# Altium footprint library TSW-102-05-T-S.PcbLib: 1 footprints
Each footprint in its own frame and in the unit in brackets; x right, y up, seen from the top. Pads: shape width x height; smd on the part's side, far side on the other; paste and mask are expansions set on the pad; w line width, h text height; cw(c..) or ccw(c..) is an arc to the next point about the centre after c.
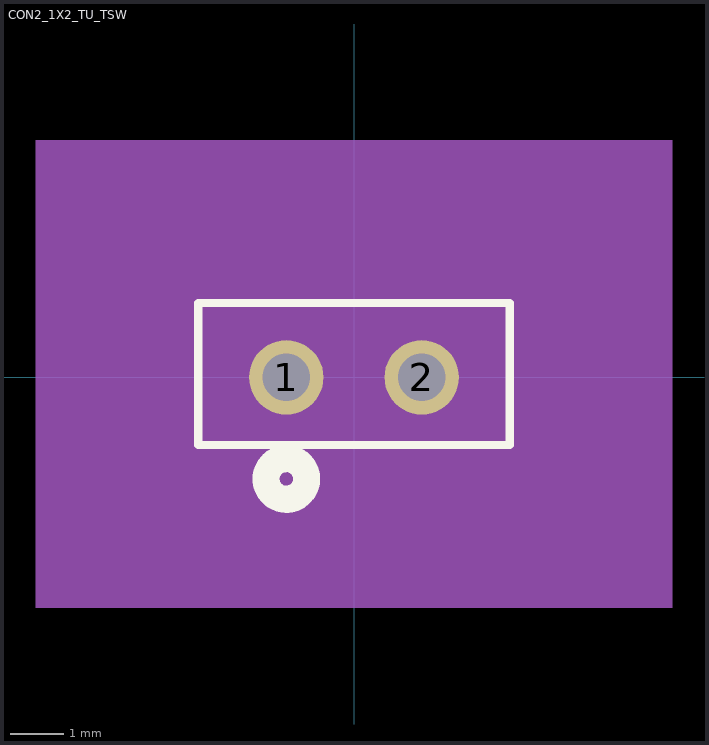
[diagram p0: the footprint, top view; thin cyan lines are the x and y axes]

## CON2_1X2_TU_TSW [mil]
pads (2):
  round 55 hole 35 mask+0: 1(-50,0) 2(50,0)
Top Overlay:
  circle w20: c-50,-75 r15
  lines w6: -115,-50 115,-50 115,55 -115,55 -115,-50
Bottom Overlay:
  circle w20: c-50,-75 r15
Mechanical 5:
  region: -235,175 235,175 235,-170 -235,-170
Mechanical 13:
  circle w0: c-50,0 r10
  lines w1: -110,-45 110,-45 110,50 -110,50 -110,-45
Mechanical 15:
  region: 120,60 100,60 100,102 -100,102 -100,60 -120,60 -120,-55 -100,-55 -100,-102 100,-102 100,-55 120,-55
  lines w6: -120,-55 -120,60 -100,60 -100,102 100,102 100,60 120,60 120,-55 100,-55 100,-102 -100,-102 -100,-55 -120,-55
3D body "CON2_1X2_TU_TSW.step": height 500, standoff 0, extent -100,-50 100,50